# Altium footprint library ARJM11C7-502-AB-EV.PcbLib: 1 footprints
Each footprint in its own frame and in the unit in brackets; x right, y up, seen from the top. Pads: shape width x height; smd on the part's side, far side on the other; paste and mask are expansions set on the pad; w line width, h text height; cw(c..) or ccw(c..) is an arc to the next point about the centre after c.
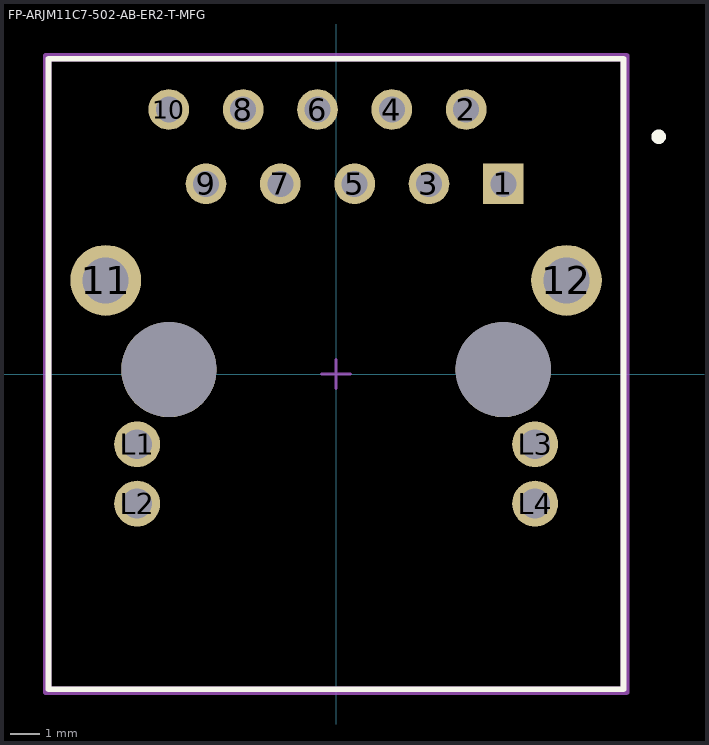
[diagram p0: the footprint, top view; thin cyan lines are the x and y axes]

## FP-ARJM11C7-502-AB-ER2-T-MFG [mm]
pads (18):
  rect 1.39x1.39 hole 0.89 paste-2539.97 mask+0: 1(5.715,6.5)
  round 1.39 hole 0.89 paste-2539.97 mask+0: 2(4.445,9.04) 3(3.175,6.5) 4(1.905,9.04) 5(0.635,6.5) 6(-0.635,9.04) 7(-1.905,6.5) 8(-3.175,9.04) 9(-4.445,6.5) 10(-5.715,9.04)
  round 2.42 hole 1.57 paste-2539.97 mask+0: 11(-7.875,3.2) 12(7.875,3.2)
  round 1.57 hole 1.02 paste-2539.97 mask+0: L1(-6.8,-2.4) L2(-6.8,-4.43) L3(6.8,-2.4) L4(6.8,-4.43)
  round 3.25 hole 3.25 unplated paste-2539.97 mask+0: ""(-5.715,0.15) ""(5.715,0.15)
Top Overlay:
  circle w0.25: c11.025,8.11 r0.125
  lines w0.2: -9.825,-10.775 -9.825,10.775 9.825,10.775 9.825,-10.775 -9.825,-10.775
Top Assembly:
  lines w0.2: -9.925,-10.875 -9.925,10.875 9.925,10.875 9.925,-10.875 -9.925,-10.875
  text ".Designator" at 0,0.188 h1
Top 3D Body:
  lines w0.2: -9.825,-10.775 -9.825,10.775 9.825,10.775 9.825,-10.775 -9.825,-10.775
Top Courtyard:
  lines w0.2: -9.925,-10.875 -9.925,10.875 9.925,10.875 9.925,-10.875 -9.925,-10.875
Top Component Center:
  lines w0.1: -0.5,0 0.5,0 ; 0,-0.5 0,0.5
3D body "Conn_Abracon_ARJM11C7-502-AB-ER2-T_eec.STEP": height 0.25, standoff 0, extent -9.925,-10.875 9.925,10.875